# Altium integrated library TI Data Converters Analog to Digital Converter.IntLib: 2198 symbols (part 58 of 164)
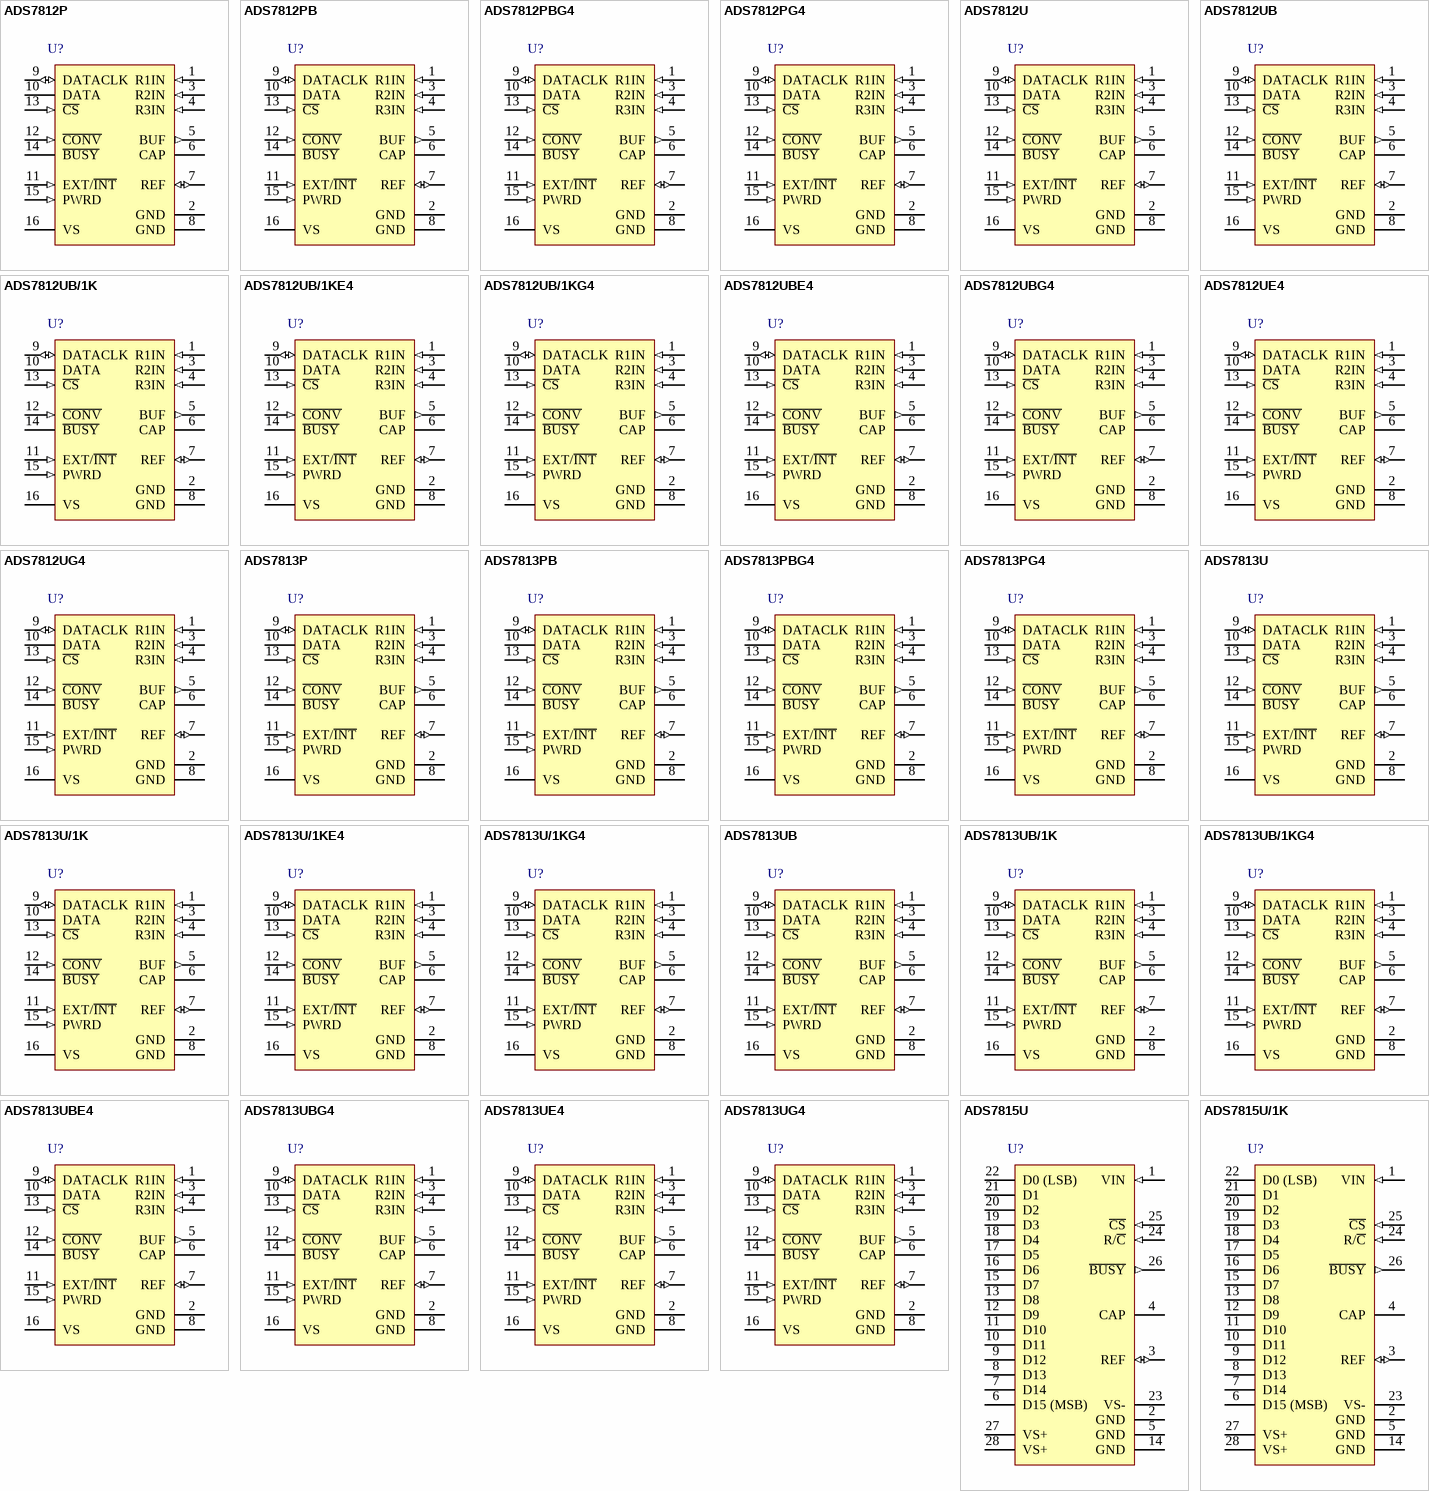
[diagram p183: symbols ADS7812P to ADS7815U/1K]

## ADS7812PBG4
designator U?
Low-Power, Serial 12-Bit Sampling ADC, -40 to 85 degC, 16-pin DIP (N16), Green (RoHS & no Sb/Br); Manufacturer: Texas Instruments; PartNumber: ADS7812PBG4; # Input Channels: 1; Analog Voltage AV/DD(Max)(V): 5.25; Analog Voltage AV/DD(Min)(V): 4.75; Architecture: SAR; INL(Max)(+/-LSB): 0.5; Interface: Serial SPI; Resolution(Bits): 12; Sample Rate (max)(SPS): 40k; SFDR(dB): 98; SINAD(dB): 74; SubFamily: Precision ADC (<=10MSPS); DatasheetVersion: SBAS042A; PackageVersion: 4040049/E, 12/2002; PackageReference: N16; PackageDescription: 16-Pin Plastic In-Line, Body 19.305 x 6.35 mm, Pitch 2.54 mm; Supplier 1: Digi-Key; Supplier Part Number 1: ADS7864Y/2K-ND; Digital Supply(Max)(V): 5.25; Digital Supply(Min)(V): 4.75; Eco-Plan: Green (RoHS & no Sb/Br); SNR(dB): 74; Mounting Technology: Through Hole; Code_JEDEC: MS-001; ComponentLink1Description: Manufacturer URL; ComponentLink1URL: http://www.ti.com/; ComponentLink2Description: Datasheet; ComponentLink2URL: http://www.ti.com/general/docs/lit/getliterature.tsp?genericPartNumber=ADS7812&fileType=pdf; ComponentLink3Description: Package Specification; ComponentLink3URL: http://www.ti.com/litv/pdf/mpdi002c
footprint TI-N16 (DIP, 16-Leads, Body 19.305x6.35mm, Pitch 2.54mm)
pins: 1 R1IN (in) "Analog input", 2 GND (power) "Ground.", 3 R2IN (in) "Analog input", 4 R3IN (in) "Analog input", 5 BUF (out) "Reference buffer output. Connect to R1IN, R2IN, or R3IN as needed", 6 CAP "Reference buffer compensation node. Decouple to ground with a 1-uF tantalum capacitor in parallel with a 0.01uF ceramic capacitor.", 7 REF (io) "Reference input/output. Outputs internal 2.5V reference via a series 4kohm resistor. Decouple this voltage with a 1uF to 2.2uF tantalum capacitor to ground. If an external reference voltage is applied to this pin, it (See Datasheet)", 8 GND (power) "Ground.", 9 DATACLK (io) "Data clock pin. With EXT/I\N\T\ low, this pin is an output and provides the synchronous clock for the serial data. The output is 3-stated when C\S\ is high. With EXT/I\N\T\ high, this pin is an input and the serial data (See Datasheet)", 10 DATA (hiz) "Serial data output. The serial data are always the result of the last completed conversion and are synchronized to DATACLK. If DATACLK is from the internal clock (EXT/I\N\T\ low), the serial data are valid on both the rising (See Datasheet)", 11 EXT/~{INT} (in), 12 ~{CONV} (in) "Convert input. A falling edge on this input puts the internal sample/hold into the hold state and starts a conversion regardless of the state of C\S\. If a conversion is already in progress, the falling edge is ignored. If (See Datasheet)", 13 ~{CS} (in) "Chip select. This input 3-states all outputs when high and enables all outputs when low, including DATA, B\U\S\Y\, and DATACLK (when EXT/I\N\T\ is low). Note that a falling edge on C\O\N\V\ initiates a conversion even when (See Datasheet)", 14 ~{BUSY} (hiz) "Busy output. When a conversion starts, B\U\S\Y\ goes low and remains low throughout the conversion. If EXT/I\N\T\ is low, data are serially transmitted while B\U\S\Y\ is low. B\U\S\Y\ is 3-stated when C\S\ is high.", 15 PWRD (in) "Power-down input. When high, the majority of the ADS7812/ADS7813/ADS8513 circuitry is placed in a low-power mode and power consumption is significantly reduced.", 16 VS (power) "+5V supply input. For best performance, decouple to ground with a 0.1uF ceramic capacitor in parallel with a 10uF tantalum capacitor."

## ADS7812PG4
designator U?
Low-Power, Serial 12-Bit Sampling ADC, -40 to 85 degC, 16-pin DIP (N16), Green (RoHS & no Sb/Br); Manufacturer: Texas Instruments; PartNumber: ADS7812PG4; # Input Channels: 1; Analog Voltage AV/DD(Max)(V): 5.25; Analog Voltage AV/DD(Min)(V): 4.75; Architecture: SAR; Interface: Serial SPI; Resolution(Bits): 12; Sample Rate (max)(SPS): 40k; SFDR(dB): 98; SINAD(dB): 74; SubFamily: Precision ADC (<=10MSPS); DatasheetVersion: SBAS042A; PackageVersion: 4040049/E, 12/2002; PackageReference: N16; PackageDescription: 16-Pin Plastic In-Line, Body 19.305 x 6.35 mm, Pitch 2.54 mm; Supplier 1: Digi-Key; Supplier Part Number 1: ADS7864Y/2KG4-ND; Digital Supply(Max)(V): 5.25; Digital Supply(Min)(V): 4.75; Eco-Plan: Green (RoHS & no Sb/Br); INL(Max)(+/-LSB): 1; SNR(dB): 74; Mounting Technology: Through Hole; Code_JEDEC: MS-001; ComponentLink1Description: Manufacturer URL; ComponentLink1URL: http://www.ti.com/; ComponentLink2Description: Datasheet; ComponentLink2URL: http://www.ti.com/general/docs/lit/getliterature.tsp?genericPartNumber=ADS7812&fileType=pdf; ComponentLink3Description: Package Specification; ComponentLink3URL: http://www.ti.com/litv/pdf/mpdi002c
footprint TI-N16 (DIP, 16-Leads, Body 19.305x6.35mm, Pitch 2.54mm)
pins: 1 R1IN (in) "Analog input", 2 GND (power) "Ground.", 3 R2IN (in) "Analog input", 4 R3IN (in) "Analog input", 5 BUF (out) "Reference buffer output. Connect to R1IN, R2IN, or R3IN as needed", 6 CAP "Reference buffer compensation node. Decouple to ground with a 1-uF tantalum capacitor in parallel with a 0.01uF ceramic capacitor.", 7 REF (io) "Reference input/output. Outputs internal 2.5V reference via a series 4kohm resistor. Decouple this voltage with a 1uF to 2.2uF tantalum capacitor to ground. If an external reference voltage is applied to this pin, it (See Datasheet)", 8 GND (power) "Ground.", 9 DATACLK (io) "Data clock pin. With EXT/I\N\T\ low, this pin is an output and provides the synchronous clock for the serial data. The output is 3-stated when C\S\ is high. With EXT/I\N\T\ high, this pin is an input and the serial data (See Datasheet)", 10 DATA (hiz) "Serial data output. The serial data are always the result of the last completed conversion and are synchronized to DATACLK. If DATACLK is from the internal clock (EXT/I\N\T\ low), the serial data are valid on both the rising (See Datasheet)", 11 EXT/~{INT} (in), 12 ~{CONV} (in) "Convert input. A falling edge on this input puts the internal sample/hold into the hold state and starts a conversion regardless of the state of C\S\. If a conversion is already in progress, the falling edge is ignored. If (See Datasheet)", 13 ~{CS} (in) "Chip select. This input 3-states all outputs when high and enables all outputs when low, including DATA, B\U\S\Y\, and DATACLK (when EXT/I\N\T\ is low). Note that a falling edge on C\O\N\V\ initiates a conversion even when (See Datasheet)", 14 ~{BUSY} (hiz) "Busy output. When a conversion starts, B\U\S\Y\ goes low and remains low throughout the conversion. If EXT/I\N\T\ is low, data are serially transmitted while B\U\S\Y\ is low. B\U\S\Y\ is 3-stated when C\S\ is high.", 15 PWRD (in) "Power-down input. When high, the majority of the ADS7812/ADS7813/ADS8513 circuitry is placed in a low-power mode and power consumption is significantly reduced.", 16 VS (power) "+5V supply input. For best performance, decouple to ground with a 0.1uF ceramic capacitor in parallel with a 10uF tantalum capacitor."

## ADS7812U
designator U?
Low-Power, Serial 12-Bit Sampling ADC, -40 to 85 degC, 16-pin SOIC (DW16), Green (RoHS & no Sb/Br); Manufacturer: Texas Instruments; PartNumber: ADS7812U; # Input Channels: 1; Analog Voltage AV/DD(Max)(V): 5.25; Analog Voltage AV/DD(Min)(V): 4.75; Architecture: SAR; Interface: Serial SPI; Resolution(Bits): 12; Sample Rate (max)(SPS): 40k; SFDR(dB): 98; SINAD(dB): 74; SubFamily: Precision ADC (<=10MSPS); DatasheetVersion: SBAS042A; PackageVersion: 4040000-2/G, 01/2011; PackageReference: DW16; PackageDescription: 16-Pin Plastic Small Outline, Body 10.30 x 7.50 mm, Pitch 1.27 mm; Supplier 1: Digi-Key; Supplier Part Number 1: ADS7864YBTR-ND; Digital Supply(Max)(V): 5.25; Digital Supply(Min)(V): 4.75; Eco-Plan: Green (RoHS & no Sb/Br); INL(Max)(+/-LSB): 1; SNR(dB): 74; Mounting Technology: Surface Mount; Code_JEDEC: MS-013; ComponentLink1Description: Manufacturer URL; ComponentLink1URL: http://www.ti.com/; ComponentLink2Description: Datasheet; ComponentLink2URL: http://www.ti.com/general/docs/lit/getliterature.tsp?genericPartNumber=ADS7812&fileType=pdf; ComponentLink3Description: Package Specification; ComponentLink3URL: http://www.ti.com/litv/pdf/msoi003g
footprint TI-DW16_N (SOIC, 16-Leads, Body 10.3x7.5mm, Pitch 1.27mm, IPC Medium Density)
footprint TI-DW16_L (SOIC, 16-Leads, Body 10.3x7.5mm, Pitch 1.27mm, IPC High Density)
footprint TI-DW16_M (SOIC, 16-Leads, Body 10.3x7.5mm, Pitch 1.27mm, IPC Low Density)
pins: 1 R1IN (in) "Analog input", 2 GND (power) "Ground.", 3 R2IN (in) "Analog input", 4 R3IN (in) "Analog input", 5 BUF (out) "Reference buffer output. Connect to R1IN, R2IN, or R3IN as needed", 6 CAP "Reference buffer compensation node. Decouple to ground with a 1-uF tantalum capacitor in parallel with a 0.01uF ceramic capacitor.", 7 REF (io) "Reference input/output. Outputs internal 2.5V reference via a series 4kohm resistor. Decouple this voltage with a 1uF to 2.2uF tantalum capacitor to ground. If an external reference voltage is applied to this pin, it (See Datasheet)", 8 GND (power) "Ground.", 9 DATACLK (io) "Data clock pin. With EXT/I\N\T\ low, this pin is an output and provides the synchronous clock for the serial data. The output is 3-stated when C\S\ is high. With EXT/I\N\T\ high, this pin is an input and the serial data (See Datasheet)", 10 DATA (hiz) "Serial data output. The serial data are always the result of the last completed conversion and are synchronized to DATACLK. If DATACLK is from the internal clock (EXT/I\N\T\ low), the serial data are valid on both the rising (See Datasheet)", 11 EXT/~{INT} (in), 12 ~{CONV} (in) "Convert input. A falling edge on this input puts the internal sample/hold into the hold state and starts a conversion regardless of the state of C\S\. If a conversion is already in progress, the falling edge is ignored. If (See Datasheet)", 13 ~{CS} (in) "Chip select. This input 3-states all outputs when high and enables all outputs when low, including DATA, B\U\S\Y\, and DATACLK (when EXT/I\N\T\ is low). Note that a falling edge on C\O\N\V\ initiates a conversion even when (See Datasheet)", 14 ~{BUSY} (hiz) "Busy output. When a conversion starts, B\U\S\Y\ goes low and remains low throughout the conversion. If EXT/I\N\T\ is low, data are serially transmitted while B\U\S\Y\ is low. B\U\S\Y\ is 3-stated when C\S\ is high.", 15 PWRD (in) "Power-down input. When high, the majority of the ADS7812/ADS7813/ADS8513 circuitry is placed in a low-power mode and power consumption is significantly reduced.", 16 VS (power) "+5V supply input. For best performance, decouple to ground with a 0.1uF ceramic capacitor in parallel with a 10uF tantalum capacitor."

## ADS7812UB
designator U?
Low-Power, Serial 12-Bit Sampling ADC, -40 to 85 degC, 16-pin SOIC (DW16), Green (RoHS & no Sb/Br); Manufacturer: Texas Instruments; PartNumber: ADS7812UB; # Input Channels: 1; Analog Voltage AV/DD(Max)(V): 5.25; Analog Voltage AV/DD(Min)(V): 4.75; Architecture: SAR; INL(Max)(+/-LSB): 0.5; Interface: Serial SPI; Resolution(Bits): 12; Sample Rate (max)(SPS): 40k; SFDR(dB): 98; SINAD(dB): 74; SubFamily: Precision ADC (<=10MSPS); DatasheetVersion: SBAS042A; PackageVersion: 4040000-2/G, 01/2011; PackageReference: DW16; PackageDescription: 16-Pin Plastic Small Outline, Body 10.30 x 7.50 mm, Pitch 1.27 mm; Supplier 1: Digi-Key; Supplier Part Number 1: ADS7864YB/250G4-ND; Digital Supply(Max)(V): 5.25; Digital Supply(Min)(V): 4.75; Eco-Plan: Green (RoHS & no Sb/Br); SNR(dB): 74; Mounting Technology: Surface Mount; Code_JEDEC: MS-013; ComponentLink1Description: Manufacturer URL; ComponentLink1URL: http://www.ti.com/; ComponentLink2Description: Datasheet; ComponentLink2URL: http://www.ti.com/general/docs/lit/getliterature.tsp?genericPartNumber=ADS7812&fileType=pdf; ComponentLink3Description: Package Specification; ComponentLink3URL: http://www.ti.com/litv/pdf/msoi003g
footprint TI-DW16_N (SOIC, 16-Leads, Body 10.3x7.5mm, Pitch 1.27mm, IPC Medium Density)
footprint TI-DW16_L (SOIC, 16-Leads, Body 10.3x7.5mm, Pitch 1.27mm, IPC High Density)
footprint TI-DW16_M (SOIC, 16-Leads, Body 10.3x7.5mm, Pitch 1.27mm, IPC Low Density)
pins: 1 R1IN (in) "Analog input", 2 GND (power) "Ground.", 3 R2IN (in) "Analog input", 4 R3IN (in) "Analog input", 5 BUF (out) "Reference buffer output. Connect to R1IN, R2IN, or R3IN as needed", 6 CAP "Reference buffer compensation node. Decouple to ground with a 1-uF tantalum capacitor in parallel with a 0.01uF ceramic capacitor.", 7 REF (io) "Reference input/output. Outputs internal 2.5V reference via a series 4kohm resistor. Decouple this voltage with a 1uF to 2.2uF tantalum capacitor to ground. If an external reference voltage is applied to this pin, it (See Datasheet)", 8 GND (power) "Ground.", 9 DATACLK (io) "Data clock pin. With EXT/I\N\T\ low, this pin is an output and provides the synchronous clock for the serial data. The output is 3-stated when C\S\ is high. With EXT/I\N\T\ high, this pin is an input and the serial data (See Datasheet)", 10 DATA (hiz) "Serial data output. The serial data are always the result of the last completed conversion and are synchronized to DATACLK. If DATACLK is from the internal clock (EXT/I\N\T\ low), the serial data are valid on both the rising (See Datasheet)", 11 EXT/~{INT} (in), 12 ~{CONV} (in) "Convert input. A falling edge on this input puts the internal sample/hold into the hold state and starts a conversion regardless of the state of C\S\. If a conversion is already in progress, the falling edge is ignored. If (See Datasheet)", 13 ~{CS} (in) "Chip select. This input 3-states all outputs when high and enables all outputs when low, including DATA, B\U\S\Y\, and DATACLK (when EXT/I\N\T\ is low). Note that a falling edge on C\O\N\V\ initiates a conversion even when (See Datasheet)", 14 ~{BUSY} (hiz) "Busy output. When a conversion starts, B\U\S\Y\ goes low and remains low throughout the conversion. If EXT/I\N\T\ is low, data are serially transmitted while B\U\S\Y\ is low. B\U\S\Y\ is 3-stated when C\S\ is high.", 15 PWRD (in) "Power-down input. When high, the majority of the ADS7812/ADS7813/ADS8513 circuitry is placed in a low-power mode and power consumption is significantly reduced.", 16 VS (power) "+5V supply input. For best performance, decouple to ground with a 0.1uF ceramic capacitor in parallel with a 10uF tantalum capacitor."

## ADS7812UB/1K
designator U?
Low-Power, Serial 12-Bit Sampling ADC, -40 to 85 degC, 16-pin SOIC (DW16), Green (RoHS & no Sb/Br); Manufacturer: Texas Instruments; PartNumber: ADS7812UB/1K; # Input Channels: 1; Analog Voltage AV/DD(Max)(V): 5.25; Analog Voltage AV/DD(Min)(V): 4.75; Architecture: SAR; INL(Max)(+/-LSB): 0.5; Interface: Serial SPI; Resolution(Bits): 12; Sample Rate (max)(SPS): 40k; SFDR(dB): 98; SINAD(dB): 74; SubFamily: Precision ADC (<=10MSPS); DatasheetVersion: SBAS042A; PackageVersion: 4040000-2/G, 01/2011; PackageReference: DW16; PackageDescription: 16-Pin Plastic Small Outline, Body 10.30 x 7.50 mm, Pitch 1.27 mm; Supplier 1: Digi-Key; Supplier Part Number 1: ADS7864YB/2K-ND; Digital Supply(Max)(V): 5.25; Digital Supply(Min)(V): 4.75; Eco-Plan: Green (RoHS & no Sb/Br); SNR(dB): 74; Mounting Technology: Surface Mount; Code_JEDEC: MS-013; ComponentLink1Description: Manufacturer URL; ComponentLink1URL: http://www.ti.com/; ComponentLink2Description: Datasheet; ComponentLink2URL: http://www.ti.com/general/docs/lit/getliterature.tsp?genericPartNumber=ADS7812&fileType=pdf; ComponentLink3Description: Package Specification; ComponentLink3URL: http://www.ti.com/litv/pdf/msoi003g
footprint TI-DW16_N (SOIC, 16-Leads, Body 10.3x7.5mm, Pitch 1.27mm, IPC Medium Density)
footprint TI-DW16_L (SOIC, 16-Leads, Body 10.3x7.5mm, Pitch 1.27mm, IPC High Density)
footprint TI-DW16_M (SOIC, 16-Leads, Body 10.3x7.5mm, Pitch 1.27mm, IPC Low Density)
pins: 1 R1IN (in) "Analog input", 2 GND (power) "Ground.", 3 R2IN (in) "Analog input", 4 R3IN (in) "Analog input", 5 BUF (out) "Reference buffer output. Connect to R1IN, R2IN, or R3IN as needed", 6 CAP "Reference buffer compensation node. Decouple to ground with a 1-uF tantalum capacitor in parallel with a 0.01uF ceramic capacitor.", 7 REF (io) "Reference input/output. Outputs internal 2.5V reference via a series 4kohm resistor. Decouple this voltage with a 1uF to 2.2uF tantalum capacitor to ground. If an external reference voltage is applied to this pin, it (See Datasheet)", 8 GND (power) "Ground.", 9 DATACLK (io) "Data clock pin. With EXT/I\N\T\ low, this pin is an output and provides the synchronous clock for the serial data. The output is 3-stated when C\S\ is high. With EXT/I\N\T\ high, this pin is an input and the serial data (See Datasheet)", 10 DATA (hiz) "Serial data output. The serial data are always the result of the last completed conversion and are synchronized to DATACLK. If DATACLK is from the internal clock (EXT/I\N\T\ low), the serial data are valid on both the rising (See Datasheet)", 11 EXT/~{INT} (in), 12 ~{CONV} (in) "Convert input. A falling edge on this input puts the internal sample/hold into the hold state and starts a conversion regardless of the state of C\S\. If a conversion is already in progress, the falling edge is ignored. If (See Datasheet)", 13 ~{CS} (in) "Chip select. This input 3-states all outputs when high and enables all outputs when low, including DATA, B\U\S\Y\, and DATACLK (when EXT/I\N\T\ is low). Note that a falling edge on C\O\N\V\ initiates a conversion even when (See Datasheet)", 14 ~{BUSY} (hiz) "Busy output. When a conversion starts, B\U\S\Y\ goes low and remains low throughout the conversion. If EXT/I\N\T\ is low, data are serially transmitted while B\U\S\Y\ is low. B\U\S\Y\ is 3-stated when C\S\ is high.", 15 PWRD (in) "Power-down input. When high, the majority of the ADS7812/ADS7813/ADS8513 circuitry is placed in a low-power mode and power consumption is significantly reduced.", 16 VS (power) "+5V supply input. For best performance, decouple to ground with a 0.1uF ceramic capacitor in parallel with a 10uF tantalum capacitor."

## ADS7812UB/1KE4
designator U?
Low-Power, Serial 12-Bit Sampling ADC, -40 to 85 degC, 16-pin SOIC (DW16), Green (RoHS & no Sb/Br); Manufacturer: Texas Instruments; PartNumber: ADS7812UB/1KE4; # Input Channels: 1; Analog Voltage AV/DD(Max)(V): 5.25; Analog Voltage AV/DD(Min)(V): 4.75; Architecture: SAR; INL(Max)(+/-LSB): 0.5; Interface: Serial SPI; Resolution(Bits): 12; Sample Rate (max)(SPS): 40k; SFDR(dB): 98; SINAD(dB): 74; SubFamily: Precision ADC (<=10MSPS); DatasheetVersion: SBAS042A; PackageVersion: 4040000-2/G, 01/2011; PackageReference: DW16; PackageDescription: 16-Pin Plastic Small Outline, Body 10.30 x 7.50 mm, Pitch 1.27 mm; Supplier 1: Digi-Key; Supplier Part Number 1: ADS7864YB/2KG4-ND; Digital Supply(Max)(V): 5.25; Digital Supply(Min)(V): 4.75; Eco-Plan: Green (RoHS & no Sb/Br); SNR(dB): 74; Mounting Technology: Surface Mount; Code_JEDEC: MS-013; ComponentLink1Description: Manufacturer URL; ComponentLink1URL: http://www.ti.com/; ComponentLink2Description: Datasheet; ComponentLink2URL: http://www.ti.com/general/docs/lit/getliterature.tsp?genericPartNumber=ADS7812&fileType=pdf; ComponentLink3Description: Package Specification; ComponentLink3URL: http://www.ti.com/litv/pdf/msoi003g
footprint TI-DW16_N (SOIC, 16-Leads, Body 10.3x7.5mm, Pitch 1.27mm, IPC Medium Density)
footprint TI-DW16_L (SOIC, 16-Leads, Body 10.3x7.5mm, Pitch 1.27mm, IPC High Density)
footprint TI-DW16_M (SOIC, 16-Leads, Body 10.3x7.5mm, Pitch 1.27mm, IPC Low Density)
pins: 1 R1IN (in) "Analog input", 2 GND (power) "Ground.", 3 R2IN (in) "Analog input", 4 R3IN (in) "Analog input", 5 BUF (out) "Reference buffer output. Connect to R1IN, R2IN, or R3IN as needed", 6 CAP "Reference buffer compensation node. Decouple to ground with a 1-uF tantalum capacitor in parallel with a 0.01uF ceramic capacitor.", 7 REF (io) "Reference input/output. Outputs internal 2.5V reference via a series 4kohm resistor. Decouple this voltage with a 1uF to 2.2uF tantalum capacitor to ground. If an external reference voltage is applied to this pin, it (See Datasheet)", 8 GND (power) "Ground.", 9 DATACLK (io) "Data clock pin. With EXT/I\N\T\ low, this pin is an output and provides the synchronous clock for the serial data. The output is 3-stated when C\S\ is high. With EXT/I\N\T\ high, this pin is an input and the serial data (See Datasheet)", 10 DATA (hiz) "Serial data output. The serial data are always the result of the last completed conversion and are synchronized to DATACLK. If DATACLK is from the internal clock (EXT/I\N\T\ low), the serial data are valid on both the rising (See Datasheet)", 11 EXT/~{INT} (in), 12 ~{CONV} (in) "Convert input. A falling edge on this input puts the internal sample/hold into the hold state and starts a conversion regardless of the state of C\S\. If a conversion is already in progress, the falling edge is ignored. If (See Datasheet)", 13 ~{CS} (in) "Chip select. This input 3-states all outputs when high and enables all outputs when low, including DATA, B\U\S\Y\, and DATACLK (when EXT/I\N\T\ is low). Note that a falling edge on C\O\N\V\ initiates a conversion even when (See Datasheet)", 14 ~{BUSY} (hiz) "Busy output. When a conversion starts, B\U\S\Y\ goes low and remains low throughout the conversion. If EXT/I\N\T\ is low, data are serially transmitted while B\U\S\Y\ is low. B\U\S\Y\ is 3-stated when C\S\ is high.", 15 PWRD (in) "Power-down input. When high, the majority of the ADS7812/ADS7813/ADS8513 circuitry is placed in a low-power mode and power consumption is significantly reduced.", 16 VS (power) "+5V supply input. For best performance, decouple to ground with a 0.1uF ceramic capacitor in parallel with a 10uF tantalum capacitor."

## ADS7812UB/1KG4
designator U?
Low-Power, Serial 12-Bit Sampling ADC, -40 to 85 degC, 16-pin SOIC (DW16), Green (RoHS & no Sb/Br); Manufacturer: Texas Instruments; PartNumber: ADS7812UB/1KG4; # Input Channels: 1; Analog Voltage AV/DD(Max)(V): 5.25; Analog Voltage AV/DD(Min)(V): 4.75; Architecture: SAR; INL(Max)(+/-LSB): 0.5; Interface: Serial SPI; Resolution(Bits): 12; Sample Rate (max)(SPS): 40k; SFDR(dB): 98; SINAD(dB): 74; SubFamily: Precision ADC (<=10MSPS); DatasheetVersion: SBAS042A; PackageVersion: 4040000-2/G, 01/2011; PackageReference: DW16; PackageDescription: 16-Pin Plastic Small Outline, Body 10.30 x 7.50 mm, Pitch 1.27 mm; Supplier 1: Digi-Key; Supplier Part Number 1: 296-2845-ND; Digital Supply(Max)(V): 5.25; Digital Supply(Min)(V): 4.75; Eco-Plan: Green (RoHS & no Sb/Br); SNR(dB): 74; Mounting Technology: Surface Mount; Code_JEDEC: MS-013; ComponentLink1Description: Manufacturer URL; ComponentLink1URL: http://www.ti.com/; ComponentLink2Description: Datasheet; ComponentLink2URL: http://www.ti.com/general/docs/lit/getliterature.tsp?genericPartNumber=ADS7812&fileType=pdf; ComponentLink3Description: Package Specification; ComponentLink3URL: http://www.ti.com/litv/pdf/msoi003g
footprint TI-DW16_N (SOIC, 16-Leads, Body 10.3x7.5mm, Pitch 1.27mm, IPC Medium Density)
footprint TI-DW16_L (SOIC, 16-Leads, Body 10.3x7.5mm, Pitch 1.27mm, IPC High Density)
footprint TI-DW16_M (SOIC, 16-Leads, Body 10.3x7.5mm, Pitch 1.27mm, IPC Low Density)
pins: 1 R1IN (in) "Analog input", 2 GND (power) "Ground.", 3 R2IN (in) "Analog input", 4 R3IN (in) "Analog input", 5 BUF (out) "Reference buffer output. Connect to R1IN, R2IN, or R3IN as needed", 6 CAP "Reference buffer compensation node. Decouple to ground with a 1-uF tantalum capacitor in parallel with a 0.01uF ceramic capacitor.", 7 REF (io) "Reference input/output. Outputs internal 2.5V reference via a series 4kohm resistor. Decouple this voltage with a 1uF to 2.2uF tantalum capacitor to ground. If an external reference voltage is applied to this pin, it (See Datasheet)", 8 GND (power) "Ground.", 9 DATACLK (io) "Data clock pin. With EXT/I\N\T\ low, this pin is an output and provides the synchronous clock for the serial data. The output is 3-stated when C\S\ is high. With EXT/I\N\T\ high, this pin is an input and the serial data (See Datasheet)", 10 DATA (hiz) "Serial data output. The serial data are always the result of the last completed conversion and are synchronized to DATACLK. If DATACLK is from the internal clock (EXT/I\N\T\ low), the serial data are valid on both the rising (See Datasheet)", 11 EXT/~{INT} (in), 12 ~{CONV} (in) "Convert input. A falling edge on this input puts the internal sample/hold into the hold state and starts a conversion regardless of the state of C\S\. If a conversion is already in progress, the falling edge is ignored. If (See Datasheet)", 13 ~{CS} (in) "Chip select. This input 3-states all outputs when high and enables all outputs when low, including DATA, B\U\S\Y\, and DATACLK (when EXT/I\N\T\ is low). Note that a falling edge on C\O\N\V\ initiates a conversion even when (See Datasheet)", 14 ~{BUSY} (hiz) "Busy output. When a conversion starts, B\U\S\Y\ goes low and remains low throughout the conversion. If EXT/I\N\T\ is low, data are serially transmitted while B\U\S\Y\ is low. B\U\S\Y\ is 3-stated when C\S\ is high.", 15 PWRD (in) "Power-down input. When high, the majority of the ADS7812/ADS7813/ADS8513 circuitry is placed in a low-power mode and power consumption is significantly reduced.", 16 VS (power) "+5V supply input. For best performance, decouple to ground with a 0.1uF ceramic capacitor in parallel with a 10uF tantalum capacitor."

## ADS7812UBE4
designator U?
Low-Power, Serial 12-Bit Sampling ADC, -40 to 85 degC, 16-pin SOIC (DW16), Green (RoHS & no Sb/Br); Manufacturer: Texas Instruments; PartNumber: ADS7812UBE4; # Input Channels: 1; Analog Voltage AV/DD(Max)(V): 5.25; Analog Voltage AV/DD(Min)(V): 4.75; Architecture: SAR; INL(Max)(+/-LSB): 0.5; Interface: Serial SPI; Resolution(Bits): 12; Sample Rate (max)(SPS): 40k; SFDR(dB): 98; SINAD(dB): 74; SubFamily: Precision ADC (<=10MSPS); DatasheetVersion: SBAS042A; PackageVersion: 4040000-2/G, 01/2011; PackageReference: DW16; PackageDescription: 16-Pin Plastic Small Outline, Body 10.30 x 7.50 mm, Pitch 1.27 mm; Supplier 1: Digi-Key; Supplier Part Number 1: THS14F03IPFBG4-ND; Digital Supply(Max)(V): 5.25; Digital Supply(Min)(V): 4.75; Eco-Plan: Green (RoHS & no Sb/Br); SNR(dB): 74; Mounting Technology: Surface Mount; Code_JEDEC: MS-013; ComponentLink1Description: Manufacturer URL; ComponentLink1URL: http://www.ti.com/; ComponentLink2Description: Datasheet; ComponentLink2URL: http://www.ti.com/general/docs/lit/getliterature.tsp?genericPartNumber=ADS7812&fileType=pdf; ComponentLink3Description: Package Specification; ComponentLink3URL: http://www.ti.com/litv/pdf/msoi003g
footprint TI-DW16_N (SOIC, 16-Leads, Body 10.3x7.5mm, Pitch 1.27mm, IPC Medium Density)
footprint TI-DW16_L (SOIC, 16-Leads, Body 10.3x7.5mm, Pitch 1.27mm, IPC High Density)
footprint TI-DW16_M (SOIC, 16-Leads, Body 10.3x7.5mm, Pitch 1.27mm, IPC Low Density)
pins: 1 R1IN (in) "Analog input", 2 GND (power) "Ground.", 3 R2IN (in) "Analog input", 4 R3IN (in) "Analog input", 5 BUF (out) "Reference buffer output. Connect to R1IN, R2IN, or R3IN as needed", 6 CAP "Reference buffer compensation node. Decouple to ground with a 1-uF tantalum capacitor in parallel with a 0.01uF ceramic capacitor.", 7 REF (io) "Reference input/output. Outputs internal 2.5V reference via a series 4kohm resistor. Decouple this voltage with a 1uF to 2.2uF tantalum capacitor to ground. If an external reference voltage is applied to this pin, it (See Datasheet)", 8 GND (power) "Ground.", 9 DATACLK (io) "Data clock pin. With EXT/I\N\T\ low, this pin is an output and provides the synchronous clock for the serial data. The output is 3-stated when C\S\ is high. With EXT/I\N\T\ high, this pin is an input and the serial data (See Datasheet)", 10 DATA (hiz) "Serial data output. The serial data are always the result of the last completed conversion and are synchronized to DATACLK. If DATACLK is from the internal clock (EXT/I\N\T\ low), the serial data are valid on both the rising (See Datasheet)", 11 EXT/~{INT} (in), 12 ~{CONV} (in) "Convert input. A falling edge on this input puts the internal sample/hold into the hold state and starts a conversion regardless of the state of C\S\. If a conversion is already in progress, the falling edge is ignored. If (See Datasheet)", 13 ~{CS} (in) "Chip select. This input 3-states all outputs when high and enables all outputs when low, including DATA, B\U\S\Y\, and DATACLK (when EXT/I\N\T\ is low). Note that a falling edge on C\O\N\V\ initiates a conversion even when (See Datasheet)", 14 ~{BUSY} (hiz) "Busy output. When a conversion starts, B\U\S\Y\ goes low and remains low throughout the conversion. If EXT/I\N\T\ is low, data are serially transmitted while B\U\S\Y\ is low. B\U\S\Y\ is 3-stated when C\S\ is high.", 15 PWRD (in) "Power-down input. When high, the majority of the ADS7812/ADS7813/ADS8513 circuitry is placed in a low-power mode and power consumption is significantly reduced.", 16 VS (power) "+5V supply input. For best performance, decouple to ground with a 0.1uF ceramic capacitor in parallel with a 10uF tantalum capacitor."

## ADS7812UBG4
designator U?
Low-Power, Serial 12-Bit Sampling ADC, -40 to 85 degC, 16-pin SOIC (DW16), Green (RoHS & no Sb/Br); Manufacturer: Texas Instruments; PartNumber: ADS7812UBG4; # Input Channels: 1; Analog Voltage AV/DD(Max)(V): 5.25; Analog Voltage AV/DD(Min)(V): 4.75; Architecture: SAR; INL(Max)(+/-LSB): 0.5; Interface: Serial SPI; Resolution(Bits): 12; Sample Rate (max)(SPS): 40k; SFDR(dB): 98; SINAD(dB): 74; SubFamily: Precision ADC (<=10MSPS); DatasheetVersion: SBAS042A; PackageVersion: 4040000-2/G, 01/2011; PackageReference: DW16; PackageDescription: 16-Pin Plastic Small Outline, Body 10.30 x 7.50 mm, Pitch 1.27 mm; Supplier 1: Digi-Key; Supplier Part Number 1: 296-2843-ND; Digital Supply(Max)(V): 5.25; Digital Supply(Min)(V): 4.75; Eco-Plan: Green (RoHS & no Sb/Br); SNR(dB): 74; Mounting Technology: Surface Mount; Code_JEDEC: MS-013; ComponentLink1Description: Manufacturer URL; ComponentLink1URL: http://www.ti.com/; ComponentLink2Description: Datasheet; ComponentLink2URL: http://www.ti.com/general/docs/lit/getliterature.tsp?genericPartNumber=ADS7812&fileType=pdf; ComponentLink3Description: Package Specification; ComponentLink3URL: http://www.ti.com/litv/pdf/msoi003g
footprint TI-DW16_N (SOIC, 16-Leads, Body 10.3x7.5mm, Pitch 1.27mm, IPC Medium Density)
footprint TI-DW16_L (SOIC, 16-Leads, Body 10.3x7.5mm, Pitch 1.27mm, IPC High Density)
footprint TI-DW16_M (SOIC, 16-Leads, Body 10.3x7.5mm, Pitch 1.27mm, IPC Low Density)
pins: 1 R1IN (in) "Analog input", 2 GND (power) "Ground.", 3 R2IN (in) "Analog input", 4 R3IN (in) "Analog input", 5 BUF (out) "Reference buffer output. Connect to R1IN, R2IN, or R3IN as needed", 6 CAP "Reference buffer compensation node. Decouple to ground with a 1-uF tantalum capacitor in parallel with a 0.01uF ceramic capacitor.", 7 REF (io) "Reference input/output. Outputs internal 2.5V reference via a series 4kohm resistor. Decouple this voltage with a 1uF to 2.2uF tantalum capacitor to ground. If an external reference voltage is applied to this pin, it (See Datasheet)", 8 GND (power) "Ground.", 9 DATACLK (io) "Data clock pin. With EXT/I\N\T\ low, this pin is an output and provides the synchronous clock for the serial data. The output is 3-stated when C\S\ is high. With EXT/I\N\T\ high, this pin is an input and the serial data (See Datasheet)", 10 DATA (hiz) "Serial data output. The serial data are always the result of the last completed conversion and are synchronized to DATACLK. If DATACLK is from the internal clock (EXT/I\N\T\ low), the serial data are valid on both the rising (See Datasheet)", 11 EXT/~{INT} (in), 12 ~{CONV} (in) "Convert input. A falling edge on this input puts the internal sample/hold into the hold state and starts a conversion regardless of the state of C\S\. If a conversion is already in progress, the falling edge is ignored. If (See Datasheet)", 13 ~{CS} (in) "Chip select. This input 3-states all outputs when high and enables all outputs when low, including DATA, B\U\S\Y\, and DATACLK (when EXT/I\N\T\ is low). Note that a falling edge on C\O\N\V\ initiates a conversion even when (See Datasheet)", 14 ~{BUSY} (hiz) "Busy output. When a conversion starts, B\U\S\Y\ goes low and remains low throughout the conversion. If EXT/I\N\T\ is low, data are serially transmitted while B\U\S\Y\ is low. B\U\S\Y\ is 3-stated when C\S\ is high.", 15 PWRD (in) "Power-down input. When high, the majority of the ADS7812/ADS7813/ADS8513 circuitry is placed in a low-power mode and power consumption is significantly reduced.", 16 VS (power) "+5V supply input. For best performance, decouple to ground with a 0.1uF ceramic capacitor in parallel with a 10uF tantalum capacitor."

## ADS7812UE4
designator U?
Low-Power, Serial 12-Bit Sampling ADC, -40 to 85 degC, 16-pin SOIC (DW16), Green (RoHS & no Sb/Br); Manufacturer: Texas Instruments; PartNumber: ADS7812UE4; # Input Channels: 1; Analog Voltage AV/DD(Max)(V): 5.25; Analog Voltage AV/DD(Min)(V): 4.75; Architecture: SAR; Interface: Serial SPI; Resolution(Bits): 12; Sample Rate (max)(SPS): 40k; SFDR(dB): 98; SINAD(dB): 74; SubFamily: Precision ADC (<=10MSPS); DatasheetVersion: SBAS042A; PackageVersion: 4040000-2/G, 01/2011; PackageReference: DW16; PackageDescription: 16-Pin Plastic Small Outline, Body 10.30 x 7.50 mm, Pitch 1.27 mm; Supplier 1: Digi-Key; Supplier Part Number 1: THS14F01IPFBG4-ND; Digital Supply(Max)(V): 5.25; Digital Supply(Min)(V): 4.75; Eco-Plan: Green (RoHS & no Sb/Br); INL(Max)(+/-LSB): 1; SNR(dB): 74; Mounting Technology: Surface Mount; Code_JEDEC: MS-013; ComponentLink1Description: Manufacturer URL; ComponentLink1URL: http://www.ti.com/; ComponentLink2Description: Datasheet; ComponentLink2URL: http://www.ti.com/general/docs/lit/getliterature.tsp?genericPartNumber=ADS7812&fileType=pdf; ComponentLink3Description: Package Specification; ComponentLink3URL: http://www.ti.com/litv/pdf/msoi003g
footprint TI-DW16_N (SOIC, 16-Leads, Body 10.3x7.5mm, Pitch 1.27mm, IPC Medium Density)
footprint TI-DW16_L (SOIC, 16-Leads, Body 10.3x7.5mm, Pitch 1.27mm, IPC High Density)
footprint TI-DW16_M (SOIC, 16-Leads, Body 10.3x7.5mm, Pitch 1.27mm, IPC Low Density)
pins: 1 R1IN (in) "Analog input", 2 GND (power) "Ground.", 3 R2IN (in) "Analog input", 4 R3IN (in) "Analog input", 5 BUF (out) "Reference buffer output. Connect to R1IN, R2IN, or R3IN as needed", 6 CAP "Reference buffer compensation node. Decouple to ground with a 1-uF tantalum capacitor in parallel with a 0.01uF ceramic capacitor.", 7 REF (io) "Reference input/output. Outputs internal 2.5V reference via a series 4kohm resistor. Decouple this voltage with a 1uF to 2.2uF tantalum capacitor to ground. If an external reference voltage is applied to this pin, it (See Datasheet)", 8 GND (power) "Ground.", 9 DATACLK (io) "Data clock pin. With EXT/I\N\T\ low, this pin is an output and provides the synchronous clock for the serial data. The output is 3-stated when C\S\ is high. With EXT/I\N\T\ high, this pin is an input and the serial data (See Datasheet)", 10 DATA (hiz) "Serial data output. The serial data are always the result of the last completed conversion and are synchronized to DATACLK. If DATACLK is from the internal clock (EXT/I\N\T\ low), the serial data are valid on both the rising (See Datasheet)", 11 EXT/~{INT} (in), 12 ~{CONV} (in) "Convert input. A falling edge on this input puts the internal sample/hold into the hold state and starts a conversion regardless of the state of C\S\. If a conversion is already in progress, the falling edge is ignored. If (See Datasheet)", 13 ~{CS} (in) "Chip select. This input 3-states all outputs when high and enables all outputs when low, including DATA, B\U\S\Y\, and DATACLK (when EXT/I\N\T\ is low). Note that a falling edge on C\O\N\V\ initiates a conversion even when (See Datasheet)", 14 ~{BUSY} (hiz) "Busy output. When a conversion starts, B\U\S\Y\ goes low and remains low throughout the conversion. If EXT/I\N\T\ is low, data are serially transmitted while B\U\S\Y\ is low. B\U\S\Y\ is 3-stated when C\S\ is high.", 15 PWRD (in) "Power-down input. When high, the majority of the ADS7812/ADS7813/ADS8513 circuitry is placed in a low-power mode and power consumption is significantly reduced.", 16 VS (power) "+5V supply input. For best performance, decouple to ground with a 0.1uF ceramic capacitor in parallel with a 10uF tantalum capacitor."

## ADS7812UG4
designator U?
Low-Power, Serial 12-Bit Sampling ADC, -40 to 85 degC, 16-pin SOIC (DW16), Green (RoHS & no Sb/Br); Manufacturer: Texas Instruments; PartNumber: ADS7812UG4; # Input Channels: 1; Analog Voltage AV/DD(Max)(V): 5.25; Analog Voltage AV/DD(Min)(V): 4.75; Architecture: SAR; Interface: Serial SPI; Resolution(Bits): 12; Sample Rate (max)(SPS): 40k; SFDR(dB): 98; SINAD(dB): 74; SubFamily: Precision ADC (<=10MSPS); DatasheetVersion: SBAS042A; PackageVersion: 4040000-2/G, 01/2011; PackageReference: DW16; PackageDescription: 16-Pin Plastic Small Outline, Body 10.30 x 7.50 mm, Pitch 1.27 mm; Supplier 1: Digi-Key; Supplier Part Number 1: 296-2842-ND; Digital Supply(Max)(V): 5.25; Digital Supply(Min)(V): 4.75; Eco-Plan: Green (RoHS & no Sb/Br); INL(Max)(+/-LSB): 1; SNR(dB): 74; Mounting Technology: Surface Mount; Code_JEDEC: MS-013; ComponentLink1Description: Manufacturer URL; ComponentLink1URL: http://www.ti.com/; ComponentLink2Description: Datasheet; ComponentLink2URL: http://www.ti.com/general/docs/lit/getliterature.tsp?genericPartNumber=ADS7812&fileType=pdf; ComponentLink3Description: Package Specification; ComponentLink3URL: http://www.ti.com/litv/pdf/msoi003g
footprint TI-DW16_N (SOIC, 16-Leads, Body 10.3x7.5mm, Pitch 1.27mm, IPC Medium Density)
footprint TI-DW16_L (SOIC, 16-Leads, Body 10.3x7.5mm, Pitch 1.27mm, IPC High Density)
footprint TI-DW16_M (SOIC, 16-Leads, Body 10.3x7.5mm, Pitch 1.27mm, IPC Low Density)
pins: 1 R1IN (in) "Analog input", 2 GND (power) "Ground.", 3 R2IN (in) "Analog input", 4 R3IN (in) "Analog input", 5 BUF (out) "Reference buffer output. Connect to R1IN, R2IN, or R3IN as needed", 6 CAP "Reference buffer compensation node. Decouple to ground with a 1-uF tantalum capacitor in parallel with a 0.01uF ceramic capacitor.", 7 REF (io) "Reference input/output. Outputs internal 2.5V reference via a series 4kohm resistor. Decouple this voltage with a 1uF to 2.2uF tantalum capacitor to ground. If an external reference voltage is applied to this pin, it (See Datasheet)", 8 GND (power) "Ground.", 9 DATACLK (io) "Data clock pin. With EXT/I\N\T\ low, this pin is an output and provides the synchronous clock for the serial data. The output is 3-stated when C\S\ is high. With EXT/I\N\T\ high, this pin is an input and the serial data (See Datasheet)", 10 DATA (hiz) "Serial data output. The serial data are always the result of the last completed conversion and are synchronized to DATACLK. If DATACLK is from the internal clock (EXT/I\N\T\ low), the serial data are valid on both the rising (See Datasheet)", 11 EXT/~{INT} (in), 12 ~{CONV} (in) "Convert input. A falling edge on this input puts the internal sample/hold into the hold state and starts a conversion regardless of the state of C\S\. If a conversion is already in progress, the falling edge is ignored. If (See Datasheet)", 13 ~{CS} (in) "Chip select. This input 3-states all outputs when high and enables all outputs when low, including DATA, B\U\S\Y\, and DATACLK (when EXT/I\N\T\ is low). Note that a falling edge on C\O\N\V\ initiates a conversion even when (See Datasheet)", 14 ~{BUSY} (hiz) "Busy output. When a conversion starts, B\U\S\Y\ goes low and remains low throughout the conversion. If EXT/I\N\T\ is low, data are serially transmitted while B\U\S\Y\ is low. B\U\S\Y\ is 3-stated when C\S\ is high.", 15 PWRD (in) "Power-down input. When high, the majority of the ADS7812/ADS7813/ADS8513 circuitry is placed in a low-power mode and power consumption is significantly reduced.", 16 VS (power) "+5V supply input. For best performance, decouple to ground with a 0.1uF ceramic capacitor in parallel with a 10uF tantalum capacitor."

## ADS7813P
designator U?
Low-Power, Serial 16-Bit Sampling ADC, -40 to 85 degC, 16-pin DIP (N16), Green (RoHS & no Sb/Br); Manufacturer: Texas Instruments; PartNumber: ADS7813P; # Input Channels: 1; Analog Voltage AV/DD(Max)(V): 5.25; Analog Voltage AV/DD(Min)(V): 4.75; Architecture: SAR; INL(Max)(+/-LSB): 3; Interface: Serial SPI; Resolution(Bits): 16; Sample Rate (max)(SPS): 40k; SFDR(dB): 100; SINAD(dB): 89; SubFamily: Precision ADC (<=10MSPS); DatasheetVersion: SBAS043C; PackageVersion: 4040049/E, 12/2002; PackageReference: N16; PackageDescription: 16-Pin Plastic In-Line, Body 19.305 x 6.35 mm, Pitch 2.54 mm; Supplier 1: Digi-Key; Supplier Part Number 1: THS1408IPFBG4-ND; Digital Supply(Max)(V): 5.25; Digital Supply(Min)(V): 4.75; Eco-Plan: Green (RoHS & no Sb/Br); SNR(dB): 89; Mounting Technology: Through Hole; Code_JEDEC: MS-001; ComponentLink1Description: Manufacturer URL; ComponentLink1URL: http://www.ti.com/; ComponentLink2Description: Datasheet; ComponentLink2URL: http://www.ti.com/general/docs/lit/getliterature.tsp?genericPartNumber=ADS7813&fileType=pdf; ComponentLink3Description: Package Specification; ComponentLink3URL: http://www.ti.com/litv/pdf/mpdi002c
footprint TI-N16 (DIP, 16-Leads, Body 19.305x6.35mm, Pitch 2.54mm)
pins: 1 R1IN (in) "Analog input", 2 GND (power) "Ground.", 3 R2IN (in) "Analog input", 4 R3IN (in) "Analog input", 5 BUF (out) "Reference buffer output. Connect to R1IN, R2IN, or R3IN as needed", 6 CAP "Reference buffer compensation node. Decouple to ground with a 1-uF tantalum capacitor in parallel with a 0.01uF ceramic capacitor.", 7 REF (io) "Reference input/output. Outputs internal 2.5V reference via a series 4kohm resistor. Decouple this voltage with a 1uF to 2.2uF tantalum capacitor to ground. If an external reference voltage is applied to this pin, it (See Datasheet)", 8 GND (power) "Ground.", 9 DATACLK (io) "Data clock pin. With EXT/I\N\T\ low, this pin is an output and provides the synchronous clock for the serial data. The output is 3-stated when C\S\ is high. With EXT/I\N\T\ high, this pin is an input and the serial data (See Datasheet)", 10 DATA (hiz) "Serial data output. The serial data are always the result of the last completed conversion and are synchronized to DATACLK. If DATACLK is from the internal clock (EXT/I\N\T\ low), the serial data are valid on both the rising (See Datasheet)", 11 EXT/~{INT} (in), 12 ~{CONV} (in) "Convert input. A falling edge on this input puts the internal sample/hold into the hold state and starts a conversion regardless of the state of C\S\. If a conversion is already in progress, the falling edge is ignored. If (See Datasheet)", 13 ~{CS} (in) "Chip select. This input 3-states all outputs when high and enables all outputs when low, including DATA, B\U\S\Y\, and DATACLK (when EXT/I\N\T\ is low). Note that a falling edge on C\O\N\V\ initiates a conversion even when (See Datasheet)", 14 ~{BUSY} (hiz) "Busy output. When a conversion starts, B\U\S\Y\ goes low and remains low throughout the conversion. If EXT/I\N\T\ is low, data are serially transmitted while B\U\S\Y\ is low. B\U\S\Y\ is 3-stated when C\S\ is high.", 15 PWRD (in) "Power-down input. When high, the majority of the ADS7812/ADS7813/ADS8513 circuitry is placed in a low-power mode and power consumption is significantly reduced.", 16 VS (power) "+5V supply input. For best performance, decouple to ground with a 0.1uF ceramic capacitor in parallel with a 10uF tantalum capacitor."

## ADS7813PB
designator U?
Low-Power, Serial 16-Bit Sampling ADC, -40 to 85 degC, 16-pin DIP (N16), Green (RoHS & no Sb/Br); Manufacturer: Texas Instruments; PartNumber: ADS7813PB; # Input Channels: 1; Analog Voltage AV/DD(Max)(V): 5.25; Analog Voltage AV/DD(Min)(V): 4.75; Architecture: SAR; INL(Max)(+/-LSB): 2; Interface: Serial SPI; Resolution(Bits): 16; Sample Rate (max)(SPS): 40k; SFDR(dB): 102; SINAD(dB): 89; SubFamily: Precision ADC (<=10MSPS); DatasheetVersion: SBAS043C; PackageVersion: 4040049/E, 12/2002; PackageReference: N16; PackageDescription: 16-Pin Plastic In-Line, Body 19.305 x 6.35 mm, Pitch 2.54 mm; Supplier 1: Digi-Key; Supplier Part Number 1: 296-2841-ND; Digital Supply(Max)(V): 5.25; Digital Supply(Min)(V): 4.75; Eco-Plan: Green (RoHS & no Sb/Br); SNR(dB): 89; Mounting Technology: Through Hole; Code_JEDEC: MS-001; ComponentLink1Description: Manufacturer URL; ComponentLink1URL: http://www.ti.com/; ComponentLink2Description: Datasheet; ComponentLink2URL: http://www.ti.com/general/docs/lit/getliterature.tsp?genericPartNumber=ADS7813&fileType=pdf; ComponentLink3Description: Package Specification; ComponentLink3URL: http://www.ti.com/litv/pdf/mpdi002c
footprint TI-N16 (DIP, 16-Leads, Body 19.305x6.35mm, Pitch 2.54mm)
pins: 1 R1IN (in) "Analog input", 2 GND (power) "Ground.", 3 R2IN (in) "Analog input", 4 R3IN (in) "Analog input", 5 BUF (out) "Reference buffer output. Connect to R1IN, R2IN, or R3IN as needed", 6 CAP "Reference buffer compensation node. Decouple to ground with a 1-uF tantalum capacitor in parallel with a 0.01uF ceramic capacitor.", 7 REF (io) "Reference input/output. Outputs internal 2.5V reference via a series 4kohm resistor. Decouple this voltage with a 1uF to 2.2uF tantalum capacitor to ground. If an external reference voltage is applied to this pin, it (See Datasheet)", 8 GND (power) "Ground.", 9 DATACLK (io) "Data clock pin. With EXT/I\N\T\ low, this pin is an output and provides the synchronous clock for the serial data. The output is 3-stated when C\S\ is high. With EXT/I\N\T\ high, this pin is an input and the serial data (See Datasheet)", 10 DATA (hiz) "Serial data output. The serial data are always the result of the last completed conversion and are synchronized to DATACLK. If DATACLK is from the internal clock (EXT/I\N\T\ low), the serial data are valid on both the rising (See Datasheet)", 11 EXT/~{INT} (in), 12 ~{CONV} (in) "Convert input. A falling edge on this input puts the internal sample/hold into the hold state and starts a conversion regardless of the state of C\S\. If a conversion is already in progress, the falling edge is ignored. If (See Datasheet)", 13 ~{CS} (in) "Chip select. This input 3-states all outputs when high and enables all outputs when low, including DATA, B\U\S\Y\, and DATACLK (when EXT/I\N\T\ is low). Note that a falling edge on C\O\N\V\ initiates a conversion even when (See Datasheet)", 14 ~{BUSY} (hiz) "Busy output. When a conversion starts, B\U\S\Y\ goes low and remains low throughout the conversion. If EXT/I\N\T\ is low, data are serially transmitted while B\U\S\Y\ is low. B\U\S\Y\ is 3-stated when C\S\ is high.", 15 PWRD (in) "Power-down input. When high, the majority of the ADS7812/ADS7813/ADS8513 circuitry is placed in a low-power mode and power consumption is significantly reduced.", 16 VS (power) "+5V supply input. For best performance, decouple to ground with a 0.1uF ceramic capacitor in parallel with a 10uF tantalum capacitor."